# Altium schematic symbol library USB6B1RL.SchLib: 1 symbol
Pins are listed as number, name and electrical type; pins without a type are passive.

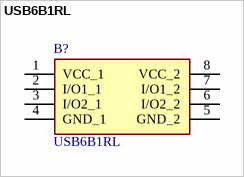
[diagram p0: symbol USB6B1RL]

## USB6B1RL
designator B?
TVS Diode Array Bi-Directional USB6B1RL, 500W SOIC 8-Pin; Manufacturer_Name: STMicroelectronics; Geometry.Height: 1.75mm; Mouser Part Number: 511-USB6B1RL; Mouser Price/Stock: https://www.mouser.co.uk/ProductDetail/STMicroelectronics/USB6B1RL?qs=Ctxo64yJVFuZb8Hhk%2F3CCQ%3D%3D; Manufacturer_Part_Number: USB6B1RL; Datasheet Link: https://www.st.com/resource/en/datasheet/usb6b1.pdf
footprint SOIC127P600X175-8N
pins: 1 VCC_1, 2 I/O1_1, 3 I/O2_1, 4 GND_1, 5 GND_2, 6 I/O2_2, 7 I/O1_2, 8 VCC_2